# Altium footprint library MyLib.PcbLib: 11 footprints
Each footprint in its own frame and in the unit in brackets; x right, y up, seen from the top. Pads: shape width x height; smd on the part's side, far side on the other; paste and mask are expansions set on the pad; w line width, h text height; cw(c..) or ccw(c..) is an arc to the next point about the centre after c.
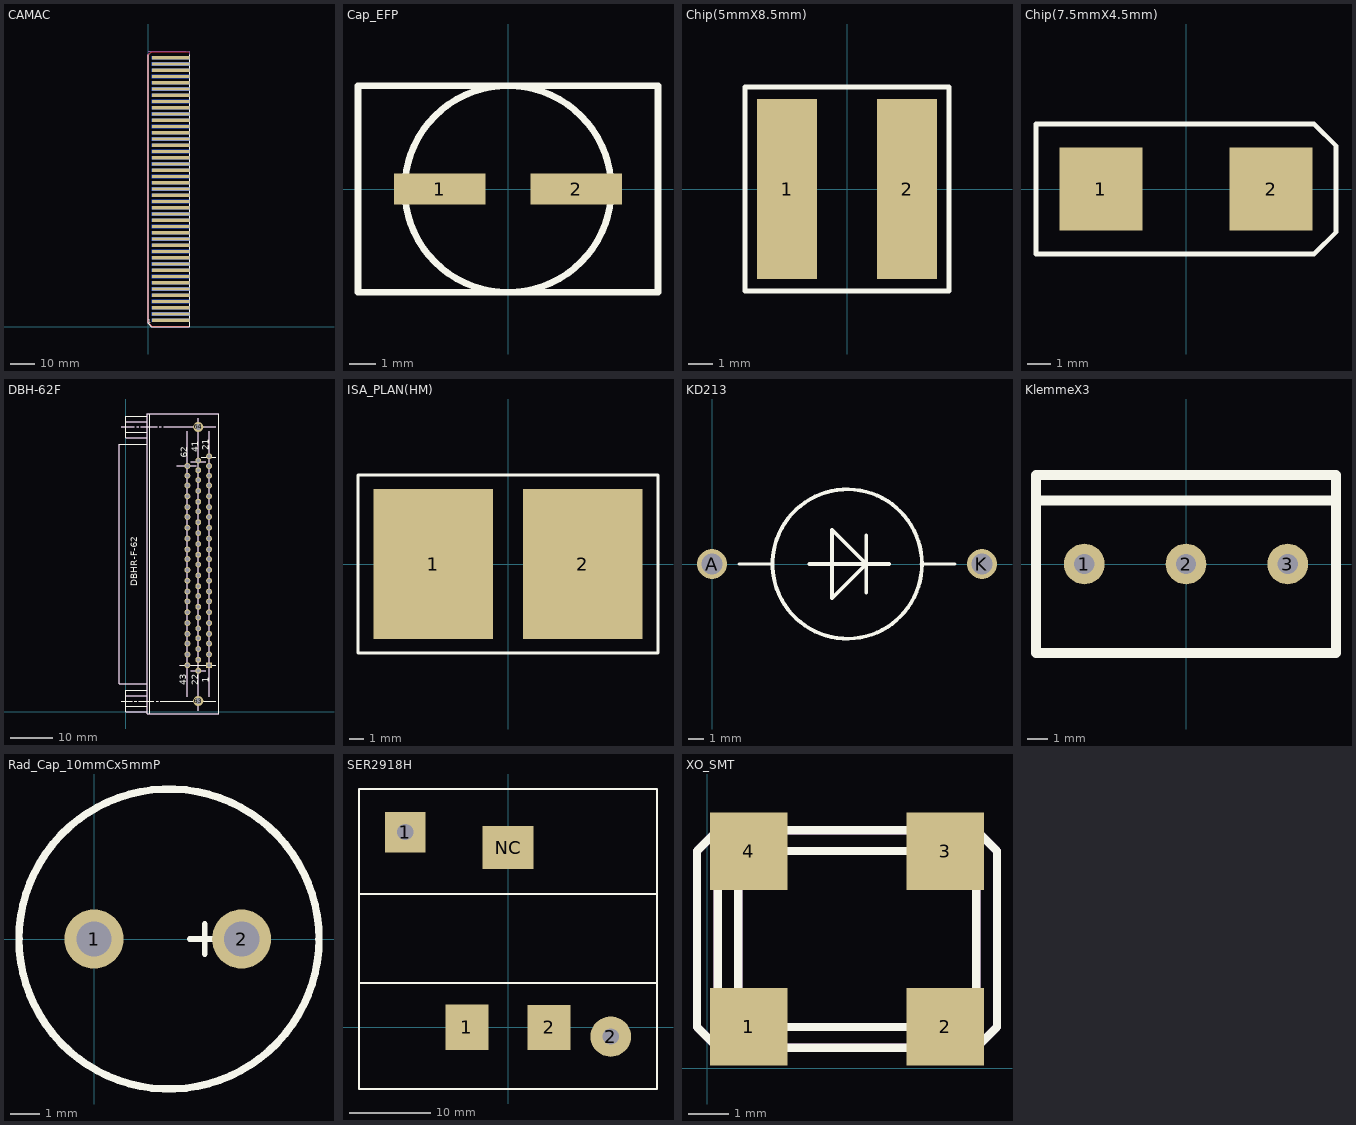
[diagram p0: the footprints below, top view; thin cyan lines are the x and y axes]

## CAMAC [mil] "CAMAC module footprint (Imperial)"
height 10
pads (86):
  rect 600x50 smd far side: +6(355,200) +24(355,300) -6(355,600) -24(355,700) A1(355,3400) A2(355,3500) A4(355,3600) A8(355,3700) ACN(355,500) AGND(355,400) B(355,4300) F1(355,3800) F2(355,3900) F4(355,4000) F8(355,4100) F16(355,4200) GND2(355,100) Q(355,3200) R1(355,800) R3(355,900) R5(355,1000) R7(355,1100) R9(355,1200) R11(355,1300) R13(355,1400) R15(355,1500) R17(355,1600) R19(355,1700) R21(355,1800) R23(355,1900) W1(355,2000) W3(355,2100) W5(355,2200) W7(355,2300) W9(355,2400) W11(355,2500) W13(355,2600) W15(355,2700) W17(355,2800) W19(355,2900) W21(355,3000) W23(355,3100) Z(355,3300)
  rect 600x50 smd: +12(355,300) +200(355,600) -12(355,700) ACL(355,500) C(355,3600) GND1(355,100) I(355,3700) L(355,3400) N(355,3500) P1(355,4300) P2(355,4200) P3(355,4100) P4(355,4000) P5(355,3900) R2(355,800) R4(355,900) R6(355,1000) R8(355,1100) R10(355,1200) R12(355,1300) R14(355,1400) R16(355,1500) R18(355,1600) R20(355,1700) R22(355,1800) R24(355,1900) S1(355,3300) S2(355,3200) W2(355,2000) W4(355,2100) W6(355,2200) W8(355,2300) W10(355,2400) W12(355,2500) W14(355,2600) W16(355,2700) W18(355,2800) W20(355,2900) W22(355,3000) W24(355,3100) X(355,3800) Y1(355,400) Y2(355,200)
Top Layer:
  lines w8: 655,4400 49.4,4400 -0.6,4350 -0.6,57 50.2,6.2 659.8,6.2
Bottom Layer:
  lines w8: -0.6,57 50.2,6.2 659.8,6.2 ; -0.6,4350.8 50.2,4401.6 659.8,4401.6
Top Overlay:
  lines w8: -2.2,4350 -2.2,50 47.8,0 655,0 ; 659.8,0 659.8,4352
  text "1" at 0.58,53 h60
Mechanical 1:
  lines w8: -2.2,4350 -2.2,50 5,50 55,0 655,0 ; 659.8,0 659.8,4400
  text "1" at 0.58,53 h60
Mechanical 3:
  lines w8: -2.2,4401.6 597.8,4401.6

## Cap_EFP [mm]
pads (2):
  rect 3.5x1.2 smd: 1(-2.6,0) 2(2.6,0)
Top Overlay:
  circle w0.254: c0,0 r3.937
  lines w0.254: -5.715,-2.5 -5.715,3.937 5.715,3.937 5.715,-3.937 -5.715,-3.937 -5.715,-1.905

## Chip(5mmX8.5mm) [mm]
pads (2):
  rect 2.5x7.5 smd: 1(-2.5,0) 2(2.5,0)
Top Overlay:
  lines w0.2: -4.25,-4.25 4.25,-4.25 4.25,4.25 -4.25,4.25 -4.25,0 -4.25,-4.25

## Chip(7.5mmX4.5mm) [mm]
pads (2):
  rect 3.5x3.5 smd: 1(-3.6,0) 2(3.6,0)
Top Overlay:
  lines w0.2: -6.35,-2.75 5.433,-2.75 6.35,-1.833 6.35,1.833 5.433,2.75 -6.35,2.75 -6.35,0 -6.35,-2.75

## DBH-62F [mil]
pads (64):
  rect 55x55 hole 35: 1(770,430)
  round 55 hole 35: 2(770,530) 3(770,630) 4(770,720) 5(770,820) 6(770,920) 7(770,1020) 8(770,1110) 9(770,1210) 10(770,1310) 11(770,1410) 12(770,1500) 13(770,1600) 14(770,1700) 15(770,1800) 16(770,1890) 17(770,1990) 18(770,2090) 19(770,2180) 20(770,2270) 21(770,2360) 22(670,380) 23(670,480) 24(670,580) 25(670,680) 26(670,770) 27(670,870) 28(670,970) 29(670,1070) 30(670,1160) 31(670,1260) 32(670,1360) 33(670,1450) 34(670,1550) 35(670,1650) 36(670,1750) 37(670,1850) 38(670,1940) 39(670,2040) 40(670,2140) 41(670,2230) 42(670,2320) 43(570,430) 44(570,530) 45(570,630) 46(570,720) 47(570,820) 48(570,920) 49(570,1020) 50(570,1110) 51(570,1210) 52(570,1310) 53(570,1410) 54(570,1500) 55(570,1600) 56(570,1700) 57(570,1800) 58(570,1890) 59(570,1990) 60(570,2090) 61(570,2180) 62(570,2270)
  round 94 hole 55: 63(670,100) 64(670,2630)
Top Overlay:
  lines w8: -40,100 60,100 ; -40,2630 80,2630 ; 0,50 200,50 ; 0,150 200,150 ; 0,2580 200,2580 ; 0,2680 200,2680 ; 80,100 100,100 ; 100,2630 120,2630 ; 120,100 260,100 ; 140,2630 290,2630 ; 200,0 0,0 0,200 200,200 ; 200,260 -60,260 -60,2470 200,2470 ; 200,2530 0,2530 0,2730 200,2730 ; 220,-20 220,2750 ; 280,100 300,100 ; 310,2630 330,2630 ; 320,100 830,100 ; 350,2630 830,2630 ; 470,2270 650,2270 ; 500,430 830,430 ; 570,140 570,2590 ; 600,380 740,380 ; 600,2310 740,2310 ; 670,10 670,2710 ; 700,2350 830,2350 ; 770,140 770,2590 ; 200,-20 860,-20 860,2750 200,2750 200,-20
  text "DBHR-F-62" at 109,1160 h60
  text "62" at 569,2345.55 h60
  text "41" at 669,2395.55 h60
  text "21" at 769,2415.55 h60
  text "43" at 559,245.55 h60
  text "22" at 669,245.55 h60
  text "1" at 769,267.78 h60
Mechanical 1:
  lines w8: -40,100 60,100 ; -40,2630 80,2630 ; 0,50 200,50 ; 0,150 200,150 ; 0,2580 200,2580 ; 0,2680 200,2680 ; 80,100 100,100 ; 100,2630 120,2630 ; 120,100 260,100 ; 140,2630 290,2630 ; 200,0 0,0 0,200 200,200 ; 200,260 -60,260 -60,2470 200,2470 ; 200,2530 0,2530 0,2730 200,2730 ; 220,-20 220,2750 ; 280,100 300,100 ; 310,2630 330,2630 ; 320,100 830,100 ; 350,2630 830,2630 ; 470,2270 650,2270 ; 500,430 830,430 ; 570,140 570,2590 ; 600,380 740,380 ; 600,2310 740,2310 ; 670,10 670,2710 ; 700,2350 830,2350 ; 770,140 770,2590 ; 200,-20 860,-20 860,2750 200,2750 200,-20
  text "DBHR-F-62" at 109,1160 h60
  text "62" at 569,2345.55 h60
  text "41" at 669,2395.55 h60
  text "21" at 769,2415.55 h60
  text "43" at 559,245.55 h60
  text "22" at 669,245.55 h60
  text "1" at 769,267.78 h60

## ISA_PLAN(HM) [mm]
pads (2):
  rect 8x10 smd: 1(-5,0) 2(5,0)
Top Overlay:
  lines w0.2: -10.033,-5.969 10.033,-5.969 10.033,5.969 -10.033,5.969 -10.033,-5.969

## KD213 [mm]
pads (2):
  round 2 hole 1.4: A(0,0) K(18,0)
Top Overlay:
  circle w0.254: c9.017,0 r4.979
  lines w0.2: 1.8,0 4.075,0 ; 13.925,0 16.2,0
  lines w0.254: 6.477,0 6.985,0 11.811,0 ; 10.287,-1.905 10.287,1.905 ; 8.001,-2.286 10.287,0 8.001,2.286 8.001,1.905 8.001,-2.286

## KlemmeX3 [mil] "15mmX9mm (5mm pad step)"
pads (3):
  round 80 hole 40: 1(-200,0) 2(0,0) 3(200,0)
Top Overlay:
  lines w19.68: -295,125 295,125 ; -215,175 275,175 295,175 295,-175 275,-175 -295,-175 -295,175 -200,175

## Rad_Cap_10mmCx5mmP [mm]
pads (2):
  round 2 hole 1.2: 1(0,0) 2(5,0)
Top Overlay:
  circle w0.254: c2.54,0 r5.08
  lines w0.2: 3.242,0 4.258,0 ; 3.75,-0.508 3.75,0.508

## SER2918H [mm] "Inductor"
pads (5):
  rect 5x5 hole 2: 1(-12.7,24.13)
  rect 5.33x5.59 smd: 1(-5.075,0)
  rect 5.334x5.588 smd: 2(5.075,0)
  round 5 hole 2: 2(12.7,-1.143)
  rect 6.35x5.283 smd: NC(0,22.225)
Top Overlay:
  lines w0.2: -18.415,-7.62 18.415,-7.62 18.415,29.464 -18.415,29.464 -18.415,-7.62
  lines w0.254: -18.415,5.461 18.415,5.461 ; -18.415,16.51 18.415,16.51

## XO_SMT [mil] "XO (quarz) footprint"
height 10
pads (4):
  rect 75x75 smd: 1(40,40) 2(230,40) 3(230,210) 4(40,210)
Top Overlay:
  lines w8: 30,40 30,210 ; -10,40 10,20 260,20 280,40 280,210 260,230 10,230 -10,210 -10,40 ; 10,50 10,200 20,210 250,210 260,200 260,50 250,40 20,40 10,50
Mechanical 1:
  lines w8: 30,40 30,210 ; -10,40 10,20 260,20 280,40 280,210 260,230 10,230 -10,210 -10,40 ; 10,50 10,200 20,210 250,210 260,200 260,50 250,40 20,40 10,50